# EAGLE library part C11204-01 (library custom_parts)
Hamamatsu C11204-01 HV supply for MPPC
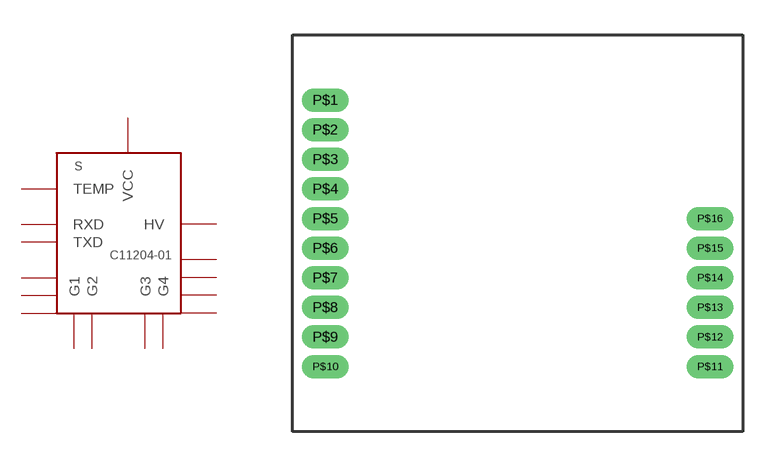
[diagram p26: symbol with the pads of C11204-01; footprint C11204-01]

Designator prefix S

## C11204-01  [C11204-01]
P$1  VCC  pwr
P$2  G1  sup
P$3  RXD  in
P$4  TXD  out
P$5  G2  sup
P$6  P$6  nc
P$7  P$7  nc
P$8  G3  sup
P$9  P$9  nc
P$10  HV  sup
P$11  P$11  nc
P$12  P$12  nc
P$13  P$13  nc
P$14  P$14  nc
P$15  G4  sup
P$16  TEMP  in

## Footprint C11204-01 (pad centres in mm)
drill 0.5 long: P$1 -8.255,5.715; P$2 -8.255,4.445; P$3 -8.255,3.175; P$4 -8.255,1.905; P$5 -8.255,0.635; P$6 -8.255,-0.635; P$7 -8.255,-1.905; P$8 -8.255,-3.175; P$9 -8.255,-4.445; P$10 -8.255,-5.715; P$11 8.255,-5.715; P$12 8.255,-4.445; P$13 8.255,-3.175; P$14 8.255,-1.905; P$15 8.255,-0.635; P$16 8.255,0.635